# EAGLE library part BLUEFRUIT_M0 (library OPEnS-RTC)
Adafruit's M0 Bluefruit / Bluetooth board layout
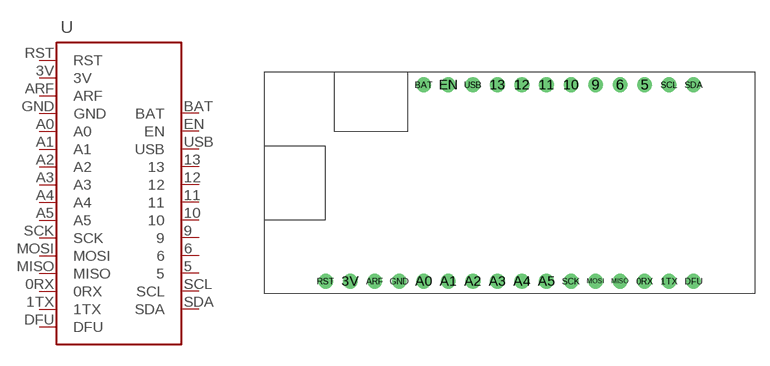
[diagram p3: symbol with the pads of BLUEFRUIT_MO; footprint BLUEFRUIT_MO]

Designator prefix -

## BLUEFRUIT_M0  [BLUEFRUIT_MO]
0RX  0RX
1TX  1TX
3V  3V
5  5
6  6
9  9
10  10
11  11
12  12
13  13
A0  A0
A1  A1
A2  A2
A3  A3
A4  A4
A5  A5
ARF  ARF
BAT  BAT
DFU  DFU
EN  EN
GND  GND
MISO  MISO
MOSI  MOSI
RST  RST
SCK  SCK
SCL  SCL
SDA  SDA
USB  USB

## Footprint BLUEFRUIT_MO (pad centres in mm)
drill 1.016: 0RX 39.37,1.27; 1TX 41.91,1.27; 3V 8.89,1.27; 5 39.37,21.59; 6 36.83,21.59; 9 34.29,21.59; 10 31.75,21.59; 11 29.21,21.59; 12 26.67,21.59; 13 24.13,21.59; A0 16.51,1.27; A1 19.05,1.27; A2 21.59,1.27; A3 24.13,1.27; A4 26.67,1.27; A5 29.21,1.27; ARF 11.43,1.27; BAT 16.51,21.59; DFU 44.45,1.27; EN 19.05,21.59; GND 13.97,1.27; MISO 36.83,1.27; MOSI 34.29,1.27; RST 6.35,1.27; SCK 31.75,1.27; SCL 41.91,21.59; SDA 44.45,21.59; USB 21.59,21.59